# Altium integrated library 901310765.IntLib: 2 symbols
Pins are listed as number, name and electrical type; pins without a type are passive.

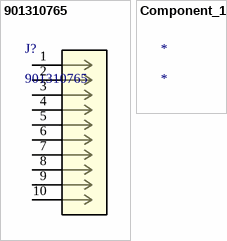
[diagram p0: symbols 901310765 to Component_1]

## 901310765
designator J?
No Description Available; Mfr_Name: Molex Connector Corporation; Copyright: Copyright (C) 2022 Ultra Librarian. All rights reserved.; Manufacturer_Part_Number: 901310765; RefDes: RefDes; Type: DEV
footprint CONN_901310765_MOL
pins: 1, 2, 3, 4, 5, 6, 7, 8, 9, 10

## Component_1
designator *